# Altium schematic symbol library VirtualWire.SchLib: 20 symbols
Pins are listed as number, name and electrical type; pins without a type are passive.

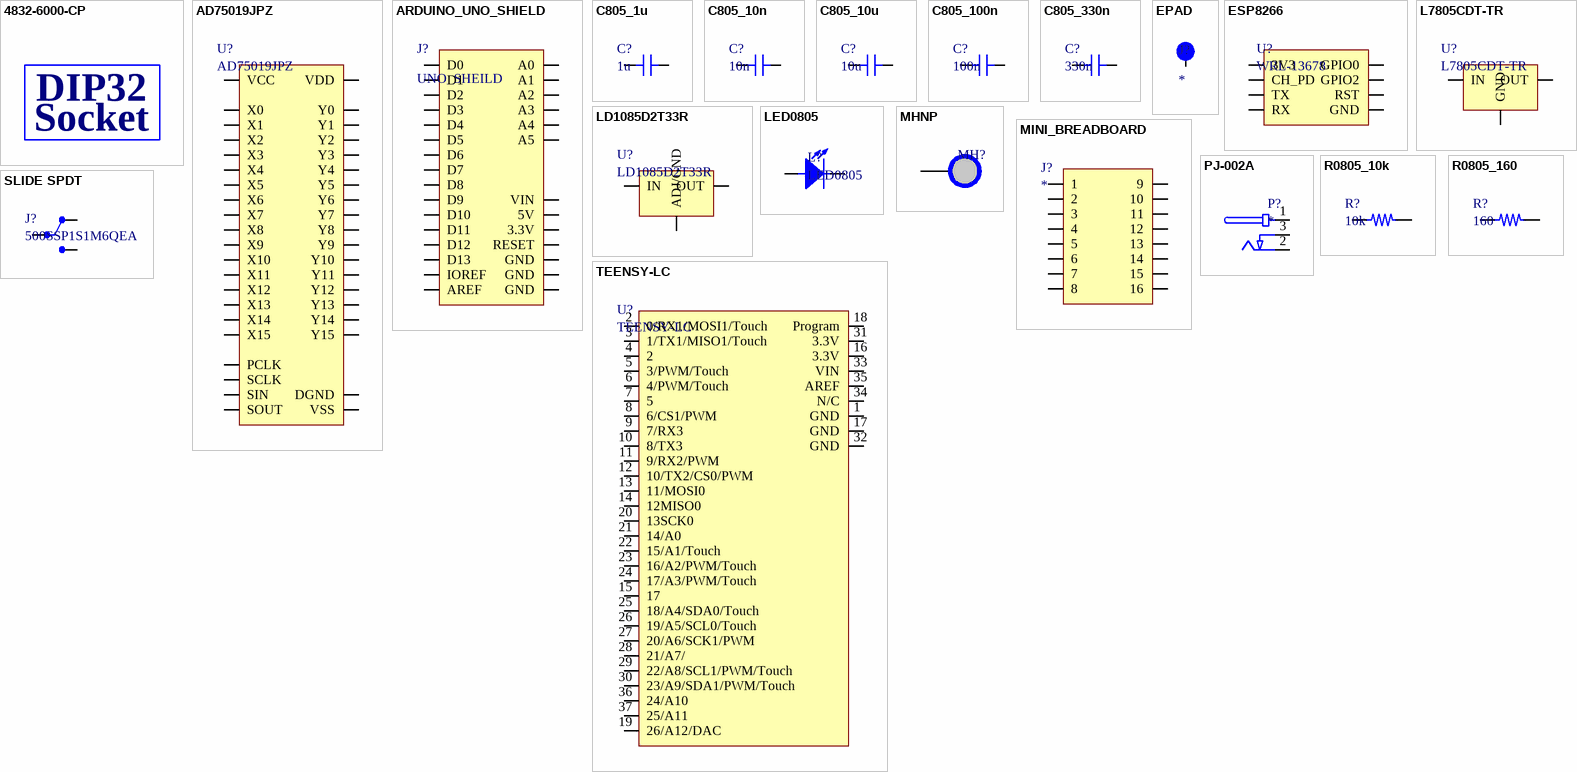
[diagram p0: symbols 4832-6000-CP to TEENSY-LC]

## 4832-6000-CP
designator Socket for U?, comment DIOP 32 socket  (value not drawn)  (mechanical)
SOCKET IC OPEN FRAME 32POS .6"; Manufacturer: 3M; Manufacturer Part Number: 4832-6000-CP; Current Rating: 1A; Voltage Rating (AC): 100V; Insulation Resistance: 5GR; Number of Positions: 32; Connector Type: DIP,Socket; Gender: Female; Pitch: 2.54mm; Row Spacing: 15.24mm; Supplier 1: Digi-Key; Stock 1: 4342; Mount: Through Hole; Contact Material: Bronze; Contact Plating: Nickel,Tin; Housing Material: Polyester; Insulation Material: Polyester; Min Operating Temperature: -25°C; Max Operating Temperature: 85°C; Package Quantity: 2880; Packaging: Rail/Tube; Number of Rows: 2; Termination: Solder; Number of Contacts: 32; Orientation: Straight; Length: 40.51mm; Width: 17.78mm; Depth: 17.78mm; Lead Free: Lead Free; Flammability Rating: UL94 V-0; ComponentLink1URL: https://datasheet.ciiva.com/768/ts1099-768356.pdf; ComponentLink1Description: https://datasheet.ciiva.com/768/ts1099-768356.pdf; ComponentLink2URL: https://datasheet.ciiva.com/14603/70237699-14603099.pdf; ComponentLink2Description: https://datasheet.ciiva.com/14603/70237699-14603099.pdf; Supplier Part Number 1: 3M5470-ND
text: DIP32; Socket

## AD75019JPZ
designator U?
SWITCH CROSSPOINT 16X16, SMD, 75019; Manufacturer: Analog Devices; Crosspoint Switch Type: Analogue; Control Interface: Serial; Supply Voltage Min: 4.5V; Supply Voltage Max: 5.5V; Digital IC Case: LCC; No. of Pins: 44Pins; SVHC: No SVHC (17-Dec-2015); Supplier 1: Digi-Key; Manufacturer Part Number: AD75019JPZ; Stock 1: 792; Input / Output Configuration: -; Operating Temperature Min: -25°C; Operating Temperature Max: 85°C; Packaging: Each; Product Range: -; MSL: MSL 3 - 168 hours; ComponentLink1URL: https://datasheet.ciiva.com/3036/ad75019-3036466.pdf; ComponentLink1Description: https://datasheet.ciiva.com/3036/ad75019-3036466.pdf; ComponentLink2URL: https://datasheet.ciiva.com/1170/66420-1170438.pdf; ComponentLink2Description: https://datasheet.ciiva.com/1170/66420-1170438.pdf; ComponentLink3URL: https://datasheet.ciiva.com/26824/ad75019jpz-26824058.pdf; ComponentLink3Description: https://datasheet.ciiva.com/26824/ad75019jpz-26824058.pdf; Supplier Part Number 1: AD75019JPZ-ND
footprint PLCC44_DIP
pins: 1 PCLK, 2 SCLK, 3 SIN, 4 VSS, 5 NC hidden, 6 NC hidden, 7 Y15, 8 Y14, 9 Y13, 10 Y12, 11 Y11, 12 Y10, 13 Y9, 14 Y8, 15 X0, 16 X1, 17 X2, 18 X3, 19 X4, 20 X5, 21 X6, 22 X7, 23 X8, 24 X9, 25 X10, 26 X11, 27 X12, 28 X13, 29 X14, 30 X15, 31 Y0, 32 Y1, 33 Y2, 34 Y3, 35 Y4, 36 Y5, 37 Y6, 38 Y7, 39 NC hidden, 40 NC hidden, 41 VDD, 42 VCC, 43 DGND, 44 SOUT

## ARDUINO_UNO_SHIELD
designator J?, comment UNO_SHEILD
footprint ARDUINO_UNO_SHIELD
pins: 1 D0, 2 D1, 3 D2, 4 D3, 5 D4, 6 D5, 7 D6, 8 D7, 9 D8, 10 D9, 11 D10, 12 D11, 13 D12, 14 D13, 15 GND, 16 AREF, 17 A5, 18 A4, 19 A3, 20 A2, 21 A1, 22 A0, 23 VIN, 24 GND, 25 GND, 26 5V, 27 3.3V, 28 RESET, 29 IOREF

## C805_1u
designator C?, comment 1u
1uF
footprint C0805
pins: 1, 2

## C805_10n
designator C?, comment 10n
10nF
footprint C0805
pins: 1, 2

## C805_10u
designator C?, comment 10u
10uF
footprint C0805
pins: 1, 2

## C805_100n
designator C?, comment 100n
100nF
footprint C0805
pins: 1, 2

## C805_330n
designator C?, comment 330n
330nF
footprint C0805
pins: 1, 2

## EPAD
designator J?
Exposed PAD
footprint EPAD
pins: 1

## ESP8266
designator U?, comment WRL-13678
WIFI ESP8266 MOD WIFI TRACE ANT; Manufacturer: SparkFun; Supplier 1: Digi-Key; Manufacturer Part Number: WRL-13678; Stock 1: 1618; ComponentLink1URL: https://nurdspace.nl/images/e/e0/ESP8266_Specifications_English.pdf; ComponentLink1Description: https://nurdspace.nl/images/e/e0/ESP8266_Specifications_English.pdf; Supplier Part Number 1: 1568-1235-ND; Pricing 1: 1=6.95 (USD)
footprint ESP8266
pins: 1 TX, 2 CH_PD, 3 RST, 4 3V3, 5 RX, 6 GPIO0, 7 GPIO2, 8 GND

## L7805CDT-TR
designator U?
IC REG LDO 5V 1.5A DPAK; Manufacturer: STMicroelectronics; Dropout Voltage: 2V; Number of Outputs: 1; Max Input Voltage: 35V; Min Input Voltage: 7V; Polarity: Positive; Quiescent Current: 8mA; Power Supply Rejection Ratio (PSRR): 62dB; Supplier 1: Digi-Key; Manufacturer Part Number: L7805CDT-TR; Stock 1: 7500; Mount: Surface Mount; Case/Package: TO-252; Number of Pins: 3; Contact Plating: Tin,Matte; Min Operating Temperature: 0°C; Max Operating Temperature: 125°C; Package Quantity: 1; Packaging: Tape and Reel; Max Output Current: 1.5A; Output Voltage: 5V; Output Current: 1.5A; Number of Regulators: 1; Min Output Voltage: 5V; Length: 6.6mm; Height: 2.4mm; Width: 6.2mm; Radiation Hardening: No; Lead Free: Lead Free; ComponentLink1URL: https://datasheet.ciiva.com/2042/cd00000444-2042784.pdf; ComponentLink1Description: https://datasheet.ciiva.com/2042/cd00000444-2042784.pdf; ComponentLink2URL: https://datasheet.ciiva.com/2042/cd00000444-2042785.pdf; ComponentLink2Description: https://datasheet.ciiva.com/2042/cd00000444-2042785.pdf; ComponentLink3URL: https://datasheet.ciiva.com/16357/cd00000444-16357893.pdf; ComponentLink3Description: https://datasheet.ciiva.com/16357/cd00000444-16357893.pdf; ComponentLink4URL: https://datasheet.ciiva.com/4882/cd00000444-4882231.pdf; ComponentLink4Description: https://datasheet.ciiva.com/4882/cd00000444-4882231.pdf; ComponentLink5URL: https://datasheet.ciiva.com/17360/cd00000444-17360220.pdf; ComponentLink5Description: https://datasheet.ciiva.com/17360/cd00000444-17360220.pdf; ComponentLink6URL: https://datasheet.ciiva.com/2042/cd00000444-2042783.pdf; ComponentLink6Description: https://datasheet.ciiva.com/2042/cd00000444-2042783.pdf; ComponentLink7URL: https://datasheet.ciiva.com/26904/l7805cdt-tr-26904768.pdf; ComponentLink7Description: https://datasheet.ciiva.com/26904/l7805cdt-tr-26904768.pdf; Supplier Part Number 1: 497-7255-2-ND
footprint DPAK (D-PAK, 3-Pads, Body 6.10x6.56mm (max), IPC Medium Density)
pins: 1 IN, 3 OUT, 4 GND

## LD1085D2T33R
designator U?
Fixed LDO Voltage Regulator, 6.3V to 30V, 1.3V Dropout, 3.3Vout, 3Aout, TO-263-3; Manufacturer: STMicroelectronics; Number of Outputs: 1; Max Output Current: 3A; Output Voltage: 3.3V; Min Supply Voltage: 4.9V; Input Bias Current: 5mA; Polarity: Positive; Quiescent Current: 10mA; Max Output Voltage: 3.333V; Accuracy: 1%; Supplier 1: Digi-Key; Manufacturer Part Number: LD1085D2T33R; Stock 1: 5416; Mount: Surface Mount; Case/Package: TO-263; Number of Pins: 3; Weight: 0.01lb; Contact Plating: Tin,Matte; Min Operating Temperature: -40°C; Max Operating Temperature: 125°C; Packaging: Tape and Reel; Max Input Voltage: 30V; Dropout Voltage: 1.3V; Output Current: 3A; Max Supply Voltage: 30V; Package Quantity: 1; Min Input Voltage: 6.3V; Nominal Output Voltage: 3.3V; Number of Regulators: 1; Min Output Voltage: 3.3V; Termination: SMD/SMT; Output Voltage Accuracy: 1%; Length: 10.4mm; Height: 4.6mm; Width: 9.35mm; Radiation Hardening: No; REACH SVHC: No SVHC; Lead Free: Lead Free; ComponentLink1URL: https://datasheet.ciiva.com/16375/cd00001883-16375381.pdf; ComponentLink1Description: https://datasheet.ciiva.com/16375/cd00001883-16375381.pdf; ComponentLink2URL: https://datasheet.ciiva.com/1511/1761309-1511542.pdf; ComponentLink2Description: https://datasheet.ciiva.com/1511/1761309-1511542.pdf; ComponentLink3URL: https://datasheet.ciiva.com/22694/1761309-22694841.pdf; ComponentLink3Description: https://datasheet.ciiva.com/22694/1761309-22694841.pdf; ComponentLink4URL: https://datasheet.ciiva.com/2044/cd00001883-2044187.pdf; ComponentLink4Description: https://datasheet.ciiva.com/2044/cd00001883-2044187.pdf; ComponentLink5URL: https://datasheet.ciiva.com/15111/getdatasheetpartid-65476-15111291.pdf; ComponentLink5Description: https://datasheet.ciiva.com/15111/getdatasheetpartid-65476-15111291.pdf; ComponentLink6URL: https://datasheet.ciiva.com/2044/cd00001883-2044188.pdf; ComponentLink6Description: https://datasheet.ciiva.com/2044/cd00001883-2044188.pdf; ComponentLink7URL: https://datasheet.ciiva.com/2044/cd00001883-2044189.pdf; ComponentLink7Description: https://datasheet.ciiva.com/2044/cd00001883-2044189.pdf; ComponentLink8URL: https://datasheet.ciiva.com/41439/001184676-da-01-en-ic-reg-ldo-3-3-ld1085d2t33r-to-263-3-stm-41439834.pdf; ComponentLink8Description: https://datasheet.ciiva.com/41439/001184676-da-01-en-ic-reg-ldo-3-3-ld1085d2t33r-to-263-3-stm-41439834.pdf; Supplier Part Number 1: 497-1222-6-ND; Pricing 1: 1=1.46, 10=1.305, 100=1.0176, 500=0.84066 (USD)
footprint D2PAK
pins: 1 ADJ/GND, 3 IN, 4 OUT

## LED0805
designator L?  (no BOM)
LED0805 any color
footprint LED0805
pins: 1 C, 2 A

## MHNP
designator MH?, comment MH 3.2mm NP  (value not drawn)  (no BOM)
Mounting hole 3.2mm non plated
footprint MH3.2mm (MHNP 3.2mm)
pins: 1

## MINI_BREADBOARD
designator J?
Mini Breadboard 16x2
footprint MINI_BREADBOARD HOLE
pins: 1, 2, 3, 4, 5, 6, 7, 8, 9, 10, 11, 12, 13, 14, 15, 16

## PJ-002A
designator P?
PJ-002 Series 2 x 6.5 mm 16 V Right Angle Through Hole Power Jack; Manufacturer: CUI; Manufacturer Part Number: PJ-002A; Gender: Male; Shielding: Unshielded; Current Rating: 2.5A; Voltage Rating: 24V; Insulation Resistance: 50MR; Number of Conductors: 2; Supplier 1: Digi-Key; Stock 1: 133077; Mount: Through Hole; Contact Material: Copper,Copper Alloy; Contact Plating: Nickel,Tin; Housing Colour: Black; Housing Material: Thermoplastic; Colour: Black; Min Operating Temperature: -25°C; Max Operating Temperature: 85°C; Termination: Through Hole; Connector Type: Jack; Packaging: Bulk; Package Quantity: 500; Contact Gender: Male; Orientation: Horizontal; Diameter: 2.1mm; Lead Free: Lead Free; Flammability Rating: UL94 V-0; ComponentLink1URL: http://www.cui.com/product/resource/digikeypdf/pj-002a.pdf; ComponentLink1Description: http://www.cui.com/product/resource/digikeypdf/pj-002a.pdf; ComponentLink2URL: http://www.cui.com/Product/Resource/FuturePDF/PJ-002A.pdf; ComponentLink2Description: http://www.cui.com/Product/Resource/FuturePDF/PJ-002A.pdf; ComponentLink3URL: http://www.mouser.com/ds/2/670/pj-002a-515880.pdf; ComponentLink3Description: http://www.mouser.com/ds/2/670/pj-002a-515880.pdf; Supplier Part Number 1: CP-002A-ND
footprint PJ-002A (CONN PWR JACK 2X5.5MM SOLDER)
pins: 1, 2 3, 3 2

## R0805_10k
designator R?, comment 10k
footprint R0805
pins: 1, 2

## R0805_160
designator R?, comment 160
160 Ohm
footprint R0805
pins: 1, 2

## SLIDE SPDT
designator J?, comment 500SSP1S1M6QEA
SWITCH SLIDE SPDT 5A 120V; Manufacturer: E-Switch; Mechanical Life: 30000Cycles; Actuator Material: Nylon,Polyamide; Max Voltage Rating (AC): 250V; Voltage Rating (DC): 28V; Contact Resistance: 10mR; Switch Travel: 2.16mm; Switch Function: On-On; Actuator Length: 4.72mm; Supplier 1: Digi-Key; Manufacturer Part Number: 500SSP1S1M6QEA; Stock 1: 6111; Mount: Through Hole,Brackets; Contact Plating: Silver; Contact Material: Copper,Silver,Copper Alloy; Housing Material: Stainless Steel; Min Operating Temperature: -30°C; Max Operating Temperature: 85°C; Contact Current Rating: 5A; Voltage Rating (AC): 120V; Throw Configuration: SPDT; Package Quantity: 1; Packaging: Bulk; Current Rating: 5A; Max Voltage Rating (DC): 28V; Termination: PC Pin; Electrical Life: 30000Cycles; Orientation: Right Angle; REACH SVHC: Unknown; Lead Free: Lead Free; Flammability Rating: UL94 V-0; ComponentLink1URL: https://datasheet.ciiva.com/16337/500-16337624.pdf; ComponentLink1Description: https://datasheet.ciiva.com/16337/500-16337624.pdf; ComponentLink2URL: https://datasheet.ciiva.com/16174/35500-16174234.pdf; ComponentLink2Description: https://datasheet.ciiva.com/16174/35500-16174234.pdf; ComponentLink3URL: https://datasheet.ciiva.com/2889/t511006d-2889419.pdf; ComponentLink3Description: https://datasheet.ciiva.com/2889/t511006d-2889419.pdf; Supplier Part Number 1: EG2478-ND; Pricing 1: 1=2.93, 10=2.808, 25=2.7484, 50=2.39, 100=2.3303, 250=2.27052, 500=1.912, 1000=1.7925, 5000=1.64313 (USD)
footprint SLIDE SPDT (500SSP1S1M6QEA)
pins: 1, 2, 3

## TEENSY-LC
designator U?
DEV TEENSY LC 13305; Manufacturer: SparkFun; Manufacturer Part Number: DEV-13305; Supplier 1: Digi-Key; Stock 1: 1201; Supplier Part Number 1: 1568-1233-ND; Pricing 1: 1 = 14.38000 (USD)
footprint TEENSY-LC
pins: 1 GND, 2 0/RX1/MOSI1/Touch, 3 1/TX1/MISO1/Touch, 4 2, 5 3/PWM/Touch, 6 4/PWM/Touch, 7 5, 8 6/CS1/PWM, 9 7/RX3, 10 8/TX3, 11 9/RX2/PWM, 12 10/TX2/CS0/PWM, 13 11/MOSI0, 14 12MISO0, 15 17, 16 3.3V, 17 GND, 18 Program, 19 26/A12/DAC, 20 13SCK0, 21 14/A0, 22 15/A1/Touch, 23 16/A2/PWM/Touch, 24 17/A3/PWM/Touch, 25 18/A4/SDA0/Touch, 26 19/A5/SCL0/Touch, 27 20/A6/SCK1/PWM, 28 21/A7/, 29 22/A8/SCL1/PWM/Touch, 30 23/A9/SDA1/PWM/Touch, 31 3.3V, 32 GND, 33 VIN, 34 N/C, 35 AREF, 36 24/A10, 37 25/A11